# EAGLE library part L4981B (library ST Microelectronics)
POWER FACTOR CORRECTOR
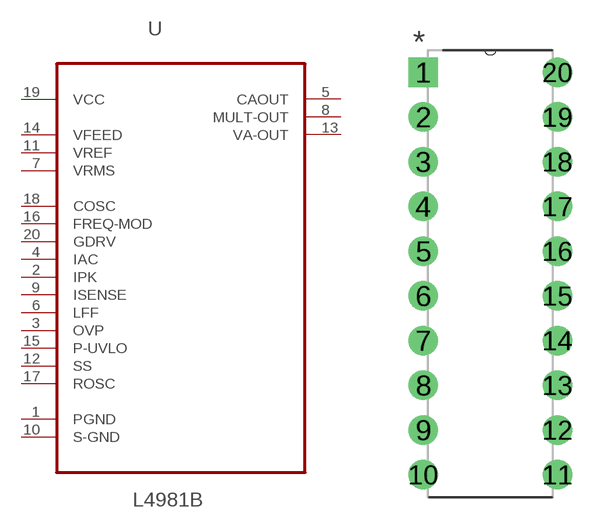
[diagram p39: symbol with the pads of DIP254P762X393-20; footprint DIP254P762X393-20]

Designator prefix U

## L4981B (MPN: L4981B; OC_FARNELL: 1094223; OC_NEWARK: 24M4228; PACKAGE: 20-DIP; SUPPLIER: STMICROELECTRONICS)  [DIP254P762X393-20]
1  PGND  pas
2  IPK  in
3  OVP  in
4  IAC  in
5  CAOUT  out
6  LFF  in
7  VRMS  in
8  MULT-OUT  out
9  ISENSE  in
10  S-GND  pas
11  VREF  in
12  SS  in
13  VA-OUT  out
14  VFEED  in
15  P-UVLO  in
16  FREQ-MOD  in
17  ROSC  pas
18  COSC  pas
19  VCC  pwr
20  GDRV  in

## Footprint DIP254P762X393-20 (pad centres in mm)
drill 1.118 square: 1 -7.62,22.86
drill 1.118: 2 -7.62,20.32; 3 -7.62,17.78; 4 -7.62,15.24; 5 -7.62,12.7; 6 -7.62,10.16; 7 -7.62,7.62; 8 -7.62,5.08; 9 -7.62,2.54; 10 -7.62,0; 11 0,0; 12 0,2.54; 13 0,5.08; 14 0,7.62; 15 0,10.16; 16 0,12.7; 17 0,15.24; 18 0,17.78; 19 0,20.32; 20 0,22.86